# Altium schematic symbol library Coffee_lib.SchLib: 10 symbols
Pins are listed as number, name and electrical type; pins without a type are passive.

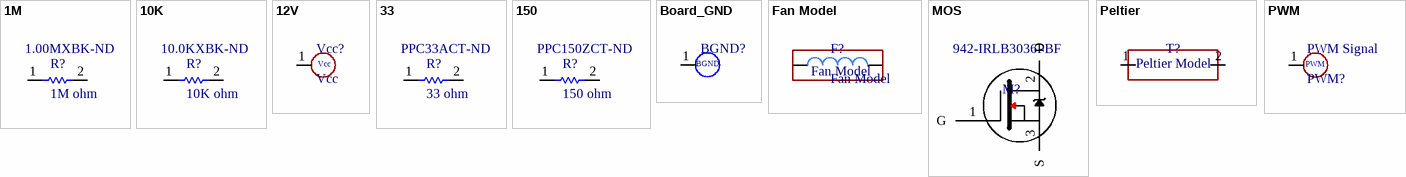
[diagram p0: symbols 1M to PWM]

## 1M
designator R?, comment 1M ohm  Supplier Part Number 1: 1.00MXBK-ND
Through-Hole; Supplier 1: Digi-Key
footprint 1M RESISTOR
pins: 1, 2

## 10K
designator R?, comment 10K ohm  Supplier Part Number 1: 10.0KXBK-ND
Through-Hole; Supplier 1: Digi-Key
footprint 10K Resistor
pins: 1, 2

## 12V
designator Vcc?, comment Vcc
pins: 1 (power)

## 33
designator R?, comment 33 ohm  Supplier Part Number 1: PPC33ACT-ND
Through-Hole; Supplier 1: Digi-Key
footprint 33 OHM RESISTOR
pins: 1, 2

## 150
designator R?, comment 150 ohm  Supplier Part Number 1: PPC150ZCT-ND
Through-Hole; Supplier 1: Digi-Key
footprint 150 OHM RESISTOR
pins: 1, 2

## Board_GND
designator BGND?, comment Board GND  (value not drawn)
pins: 1
text: BGND

## Fan Model
designator F?
Place Holder for an Fan (inductive load)
footprint Fan Model
pins: 1, 2

## MOS
designator M?  Supplier Part Number 1: 942-IRLB3036PBF
Power MOSFET; Supplier 1: Mouser
footprint irlb3036pbf-(nMOS)
pins: 1 G, 2 D, 3 S

## Peltier
designator T?
Peltier Device
footprint Peltier Model
pins: 1, 2
text: Peltier Model

## PWM
designator PWM Signal, comment PWM?
PWM Signal
footprint PWM (PWM Signal)
pins: 1 (power)